# Altium footprint library BrightLED.PcbLib: 1 footprints
Each footprint in its own frame and in the unit in brackets; x right, y up, seen from the top. Pads: shape width x height; smd on the part's side, far side on the other; paste and mask are expansions set on the pad; w line width, h text height; cw(c..) or ccw(c..) is an arc to the next point about the centre after c.
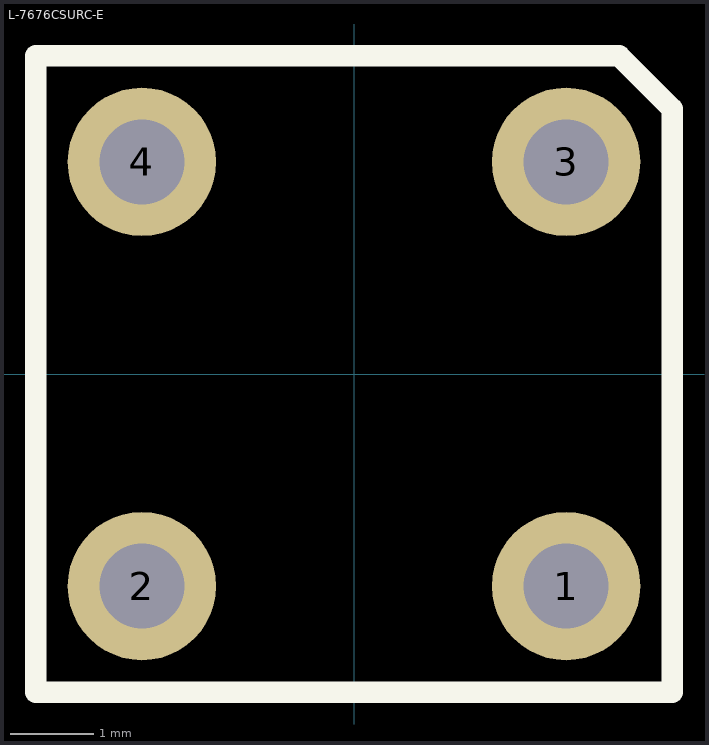
[diagram p0: the footprint, top view; thin cyan lines are the x and y axes]

## L-7676CSURC-E [mil]
pads (4):
  round 70 hole 40: 1(100,-100) 2(-100,-100) 3(100,100) 4(-100,100)
Top Overlay:
  lines w10: -150,-150 150,-150 150,125 125,150 -150,150 -150,-150
3D body: height 80, standoff 0, extent 90,-110 110,-90
3D body: height 318.9, standoff 0, extent -330,-195 -330,-195
3D body: height 80, standoff 0, extent -110,-110 -90,-90
3D body: height 318.9, standoff 0, extent -330,10 -330,10
3D body: height 80, standoff 0, extent -110,90 -90,110
3D body: height 80, standoff 0, extent 90,90 110,110
3D body: height 80, standoff 0, extent -130,10 -130,10
3D body: height 160, standoff 70, extent -150,-150 150,150